# Altium footprint library Разъемы импортные.PcbLib: 127 footprints (part 1 of 8)
Each footprint in its own frame and in the unit in brackets; x right, y up, seen from the top. Pads: shape width x height; smd on the part's side, far side on the other; paste and mask are expansions set on the pad; w line width, h text height; cw(c..) or ccw(c..) is an arc to the next point about the centre after c.
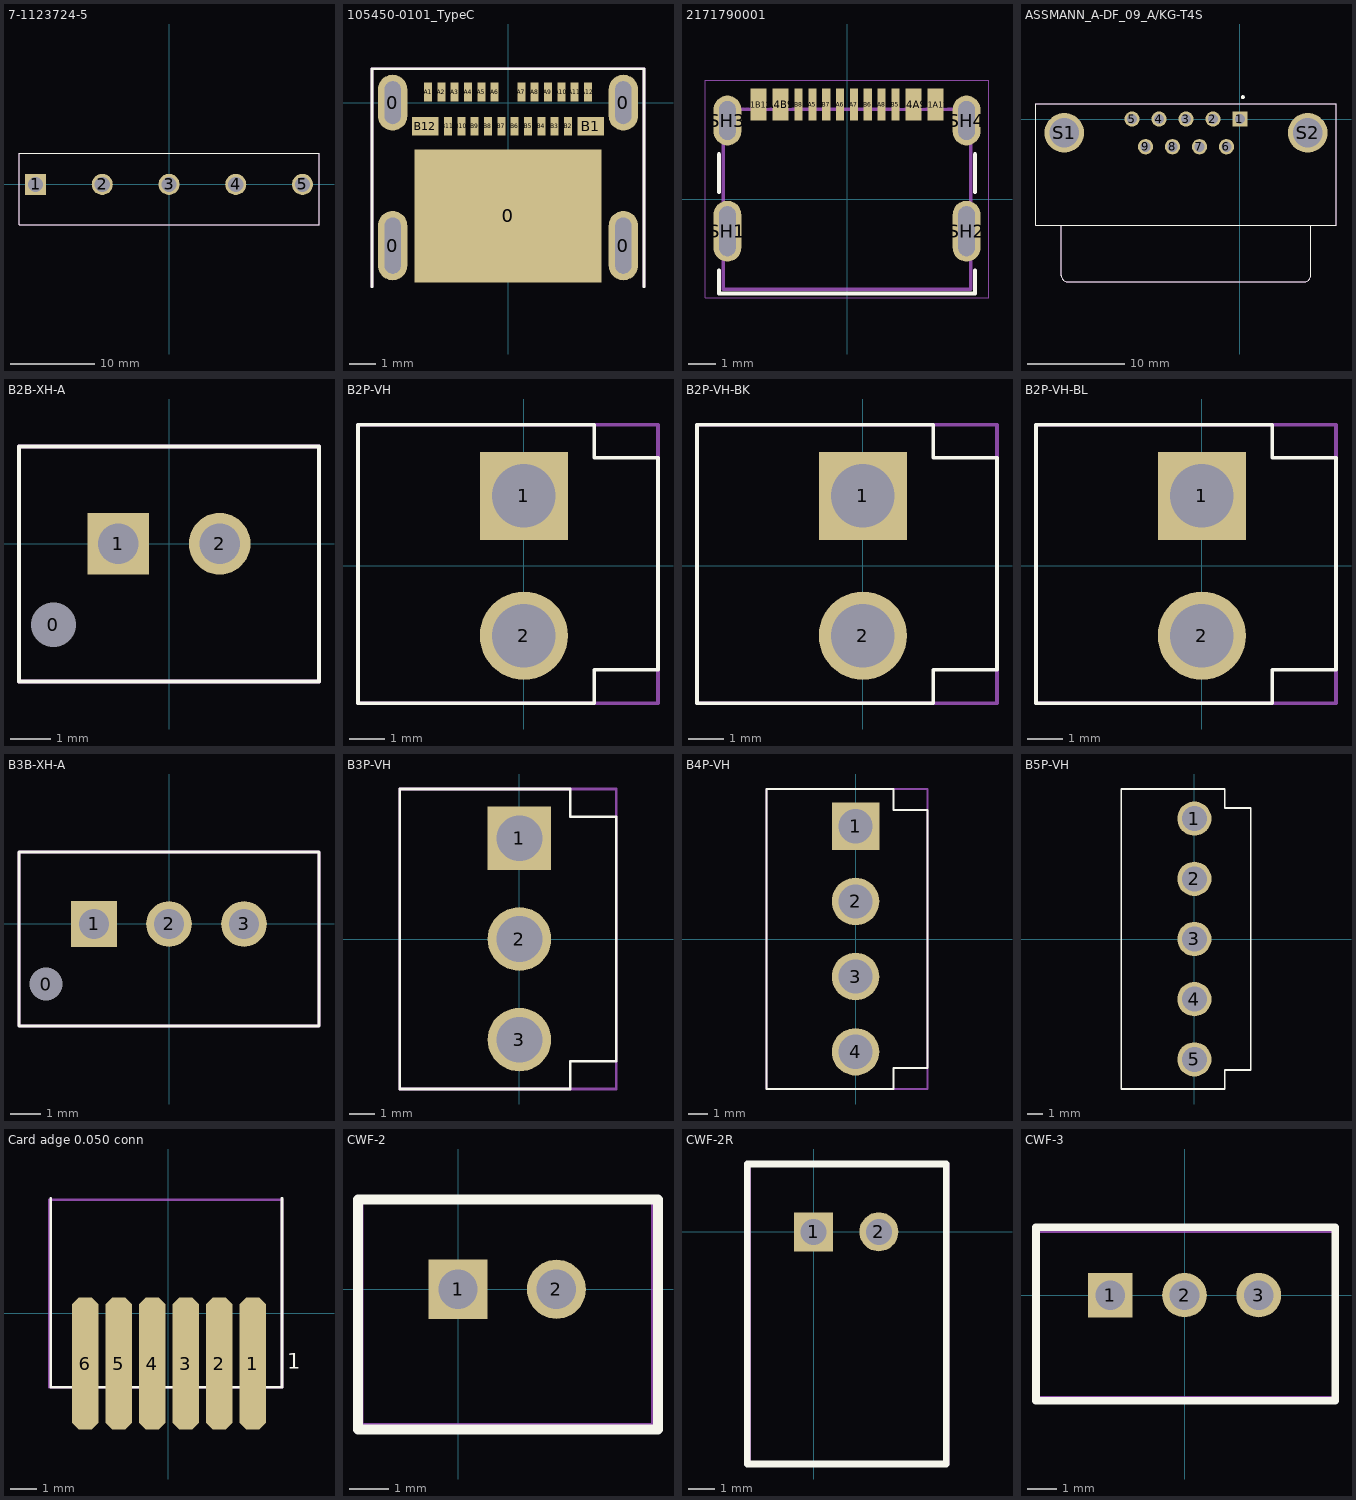
[diagram p0: the footprints below, top view; thin cyan lines are the x and y axes]

## 7-1123724-5 [mm]
pads (5):
  rect 2.5x2.5 hole 1.8: 1(-15.84,0)
  round 2.5 hole 1.8: 2(-7.92,0) 3(0,0) 4(7.92,0) 5(15.84,0)
Top Overlay:
  lines w0.1: -17.8,-4.8 17.8,-4.8 17.8,3.7 -17.8,3.7 -17.8,-4.8
TopAssy:
  lines w0.1: -17.8,-4.8 17.8,-4.8 17.8,3.7 -17.8,3.7 -17.8,-4.8
  text ".Designator" at -2.8,-2.45 h1
3D body "c-7-1123724-5-ad-3d.stp": height 10.8, standoff -3.6, extent -17.79,-4.8 17.79,3.7

## 105450-0101_TypeC [mm]
pads (29):
  oval 1.1x2.6 hole 0.6 slot 2.1 at 90 deg: 0(-4.325,-5.36) 0(4.325,-5.36)
  oval 1.1x2.1 hole 0.6 slot 1.6 at 90 deg: 0(-4.325,0) 0(4.325,0)
  rect 7x5 smd: 0(0,-4.25)
  rect 0.3x0.7 smd: A1(-3,0.4) A2(-2.5,0.4) A3(-2,0.4) A4(-1.5,0.4) A5(-1,0.4) A6(-0.5,0.4) A7(0.5,0.4) A8(1,0.4) A9(1.5,0.4) A10(2,0.4) A11(2.5,0.4) A12(3,0.4) B2(2.25,-0.89) B3(1.75,-0.89) B4(1.25,-0.89) B5(0.75,-0.89) B6(0.25,-0.89) B7(-0.25,-0.89) B8(-0.75,-0.89) B9(-1.25,-0.89) B10(-1.75,-0.89) B11(-2.25,-0.89)
  rect 1x0.7 smd: B1(3.1,-0.89) B12(-3.1,-0.89)
Top Overlay:
  lines w0.1: -5.1,-6.9 -5.1,1.275 5.1,1.275 5.1,-6.9
TopAssy:
  lines w0.1: -5.1,-6.9 -5.1,1.275 5.1,1.275 5.1,-6.9
  text ".Designator" at -2.2,-6.85 h1
3D body "105450-0101_TypeC.stp": height 3.18, standoff -0.78, extent -4.47,-7.15 4.47,0.75

## 2171790001 [mm]
pads (16):
  rect 0.59x1.15 smd mask+0.064: A1B12(-3.2,3.425) A4B9(-2.4,3.425) B1A12(3.2,3.425) B4A9(2.4,3.425)
  rect 0.298x1.15 smd mask+0.064: A5(-1.25,3.425) A6(-0.25,3.425) A7(0.25,3.425) A8(1.25,3.425) B5(1.75,3.425) B6(0.75,3.425) B7(-0.75,3.425) B8(-1.75,3.425)
  oval 1x2.2 hole 0.6 slot 1.8 at 90 deg mask+0.064: SH1(-4.32,-1.15) SH2(4.32,-1.15)
  oval 1x1.8 hole 0.6 slot 1.4 at 90 deg mask+0.064: SH3(-4.32,2.85) SH4(4.32,2.85)
Top Overlay:
  lines w0.15: -4.62,-2.57 -4.62,-3.4 4.62,-3.4 4.62,-2.57 ; -4.62,0.27 -4.62,1.63 ; 4.62,0.27 4.62,1.63
Mechanical 13:
  lines w0.13: -4.47,-3.25 -4.47,3.25 4.47,3.25 4.47,-3.25 -4.47,-3.25
Mechanical 15:
  lines w0.01: -5.12,-3.55 5.12,-3.55 5.12,4.3 -5.12,4.3 -5.12,-3.55
3D body "2171790001.step": height 3.17, standoff -0.89, extent -4.47,-3.375 4.47,3.375

## ASSMANN_A-DF_09_A/KG-T4S [mm]
height 12.8
pads (11):
  rect 1.575x1.575 / inner round 1.575 / far side rect 1.575x1.575 hole 1.05: 1(0,0)
  round 1.575 hole 1.05: 2(-2.77,0) 3(-5.54,0) 4(-8.31,0) 5(-11.08,0) 6(-1.385,-2.84) 7(-4.155,-2.84) 8(-6.925,-2.84) 9(-9.695,-2.84)
  round 4.066 hole 3.05: S1(-18.035,-1.42) S2(6.955,-1.42)
Top Overlay:
  circle w0.2: c0.3,2.25 r0.1
  lines w0.127: -18.34,-16.1 -18.34,-11 ; -18.34,-16.095 ccw(c-17.68,-16.06) -17.645,-16.72 ; -17.64,-16.72 6.56,-16.72 ; 6.565,-16.72 ccw(c6.6,-16.06) 7.26,-16.095 ; 7.26,-16.1 7.26,-11 ; -20.945,-10.92 -20.945,1.58 9.865,1.58 9.865,-10.92 -20.945,-10.92
TopAssy:
  lines w0.127: -18.34,-16.1 -18.34,-11 ; -18.34,-16.095 ccw(c-17.68,-16.06) -17.645,-16.72 ; -17.64,-16.72 6.56,-16.72 ; 6.565,-16.72 ccw(c6.6,-16.06) 7.26,-16.095 ; 7.26,-16.1 7.26,-11 ; -20.945,-10.92 9.865,-10.92 9.865,1.58 -20.945,1.58 -20.945,-10.92
3D body "step_temp.STEP": height 12.55, standoff -4.33, extent -20.945,-16.74 9.865,1.56

## B2B-XH-A [mm]
pads (3):
  round 0.8 hole 1.1 unplated: 0(-2.85,-2)
  rect 1.524x1.524 hole 1: 1(-1.25,0)
  round 1.524 hole 1: 2(1.25,0)
Top Overlay:
  lines w0.1: -3.7,-3.4 3.7,-3.4 3.7,2.4 -3.7,2.4 -3.7,-3.4
TopAssy:
  lines w0.1: -3.7,-3.4 3.7,-3.4 3.7,2.4 -3.7,2.4 -3.7,-3.4
  text ".Designator" at -3.6,-2.1 h1.52
3D body "B2B-XH-A.step": height 7, standoff -3.4, extent -3.7,-3.375 3.7,2.375

## B2P-VH [mm]
pads (2):
  rect 2.5x2.5 hole 1.8: 1(0,1.98)
  round 2.5 hole 1.8: 2(0,-1.98)
Top Overlay:
  lines w0.1: -4.7,-3.9 2,-3.9 2,-2.945 3.8,-2.945 3.8,3.055 2,3.055 2,4 -4.7,4 -4.7,-3.9
TopAssy:
  lines w0.1: -4.7,-3.9 3.8,-3.9 3.8,4 -4.7,4 -4.7,-3.9
  text ".Designator" at -2.6,0 h1.52
3D body "B2P-VH.STEP": height 10.9, standoff -3.7, extent -4.65,-3.93 3.85,3.93

## B2P-VH-BK [mm]
pads (2):
  rect 2.5x2.5 hole 1.8: 1(0,1.98)
  round 2.5 hole 1.8: 2(0,-1.98)
Top Overlay:
  lines w0.1: -4.7,-3.9 -4.7,4 2,4 2,3.055 3.8,3.055 3.8,-2.945 2,-2.945 2,-3.9 -4.7,-3.9
TopAssy:
  lines w0.1: -4.7,-3.9 -4.7,4 3.8,4 3.8,-3.9 -4.7,-3.9
  text ".Designator" at -2.6,0 h1.52
3D body "B2P-VH-BK.STEP": height 10.9, standoff -3.7, extent -4.65,-3.93 3.85,3.93

## B2P-VH-BL [mm]
pads (2):
  rect 2.5x2.5 hole 1.8: 1(0,1.98)
  round 2.5 hole 1.8: 2(0,-1.98)
Top Overlay:
  lines w0.1: -4.7,-3.9 2,-3.9 2,-2.945 3.8,-2.945 3.8,3.055 2,3.055 2,4 -4.7,4 -4.7,-3.9
TopAssy:
  lines w0.1: -4.7,-3.9 3.8,-3.9 3.8,4 -4.7,4 -4.7,-3.9
  text ".Designator" at -2.6,0 h1.52
3D body "B2P-VH-BL.STEP": height 10.9, standoff -3.7, extent -4.65,-3.93 3.85,3.93

## B3B-XH-A [mm]
pads (4):
  round 0.8 hole 1.1 unplated: 0(-4.1,-2)
  rect 1.524x1.524 hole 1: 1(-2.5,0)
  round 1.524 hole 1: 2(0,0) 3(2.5,0)
Top Overlay:
  lines w0.1: -5,-3.4 5,-3.4 5,2.4 -5,2.4 -5,-3.4
TopAssy:
  lines w0.1: -5,-3.4 5,-3.4 5,2.4 -5,2.4 -5,-3.4
  text ".Designator" at -3.6,-2.1 h1.52
3D body "B3B-XH-A.step": height 7, standoff -3.4, extent -4.95,-3.375 4.95,2.375

## B3P-VH [mm]
pads (3):
  rect 2.5x2.5 hole 1.8: 1(0,3.96)
  round 2.5 hole 1.8: 2(0,0) 3(0,-3.96)
Top Overlay:
  lines w0.1: -4.7,-5.9 -4.7,5.9 2,5.9 2,4.8 3.8,4.8 3.8,-4.8 2,-4.8 2,-5.9 -4.7,-5.9
TopAssy:
  lines w0.1: -4.7,-5.9 -4.7,5.9 3.8,5.9 3.8,-5.9 -4.7,-5.9
  text ".Designator" at -2.6,0 h1.52
3D body "B3P-VH.STEP": height 10.9, standoff -3.7, extent -4.65,-5.91 3.85,5.91

## B4P-VH [mm]
pads (4):
  rect 2.5x2.5 hole 1.8: 1(0,5.94)
  round 2.5 hole 1.8: 2(0,1.98) 3(0,-1.98) 4(0,-5.94)
Top Overlay:
  lines w0.1: -4.7,-7.9 2,-7.9 2,-6.8 3.8,-6.8 3.8,6.8 2,6.8 2,7.9 -4.7,7.9 -4.7,-7.9
TopAssy:
  lines w0.1: -4.7,-7.9 3.8,-7.9 3.8,7.9 -4.7,7.9 -4.7,-7.9
  text ".Designator" at -2.6,0 h1.52
3D body "B4P-VH.STEP": height 10.9, standoff -3.7, extent -4.65,-7.89 3.85,7.89

## B5P-VH [mm]
pads (5):
  round 2.25 hole 1.65: 1(0,7.92) 2(0,3.96) 3(0,0) 4(0,-3.96) 5(0,-7.92)
Top Overlay:
  lines w0.1: -4.8,-9.87 2,-9.87 2,-8.62 3.7,-8.62 3.7,8.62 2,8.62 2,9.87 -4.8,9.87 -4.8,-9.87
3D body "c-1-1123723-5-ad-3d.stp": height 10.7, standoff -3.7, extent -4.8,-9.87 3.7,9.87

## Card adge 0.050 conn [mm] "Card adge 0.050 conn (PCI)"
pads (6):
  oct 1x5 / inner rect 0x0 / far side rect 0x0 all layers, no hole: 1(3.2,-1.9) 2(1.93,-1.9) 3(0.66,-1.9) 4(-0.61,-1.9) 5(-1.88,-1.9) 6(-3.15,-1.9)
Top Overlay:
  lines w0.1: -4.45,4.35 -4.45,-2.8 4.3,-2.8 4.3,4.35
  text "1" at 4.5,-2.3 h1
TopAssy:
  lines w0.1: -4.5,-2.8 -4.5,4.3 4.3,4.3 4.3,-2.8 -4.5,-2.8
  text ".Designator" at -2,-0.5 h1.52

## CWF-2 [mm]
pads (2):
  rect 1.5x1.5 hole 1: 1(0,0)
  round 1.5 hole 1: 2(2.5,0)
Top Overlay:
  lines w0.254: -2.54,-3.556 5.08,-3.556 5.08,2.286 3.429,2.286 -0.381,2.286 -2.54,2.286 -2.54,-3.556
TopAssy:
  lines w0.2: -2.5,-3.5 5,-3.5 5,2.3 -2.5,2.3 -2.5,-3.5
  text ".Designator" at -1.7,-1.4 h3
3D body "CWF-2_DS1069-2.STEP": height 7, standoff -3.5, extent -2.46,-3.55 5.04,2.2

## CWF-2R [mm]
pads (2):
  rect 1.5x1.5 hole 1: 1(0,0)
  round 1.5 hole 1: 2(2.5,0)
Top Overlay:
  lines w0.254: -2.54,-8.9 5.08,-8.9 5.08,2.6 3.743,2.6 -0.067,2.6 -2.54,2.6 -2.54,-8.9
TopAssy:
  lines w0.2: -2.5,-8.9 5.1,-8.9 5.1,2.6 -2.5,2.6 -2.5,-8.9
  text ".Designator" at -1.7,-6.8 h3
3D body "DS1069-2 CWF-2R.step": height 5.75, standoff -3.5, extent -2.5,-8.88 5,2.62

## CWF-3 [mm]
pads (3):
  rect 1.5x1.5 hole 1: 1(-2.5,0)
  round 1.5 hole 1: 2(0,0) 3(2.5,0)
Top Overlay:
  lines w0.254: -5,-3.556 5.08,-3.556 5.08,2.286 3.429,2.286 -0.381,2.286 -5,2.286 -5,-3.556
TopAssy:
  lines w0.2: -5,-3.5 -5,2.2 5.1,2.2 5.1,-3.5 -5,-3.5
  text ".Designator" at -4.2,-1.4 h3
3D body "CWF-3.step": height 7, standoff -3.5, extent -5,-3.5 5,2.25